# EAGLE library part AD22151 (library magnetic_sensors)
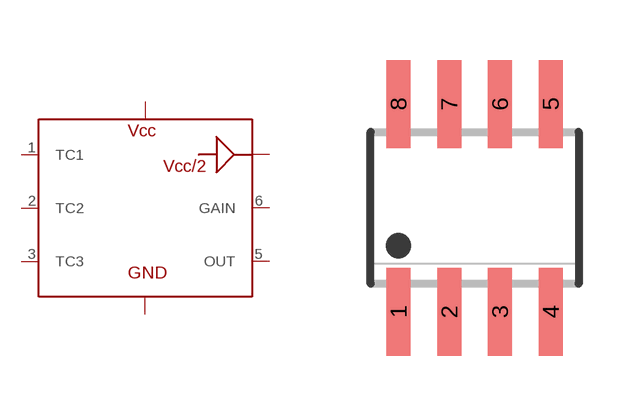
[diagram p0: symbol with the pads of SOIC8; footprint SOIC8]

Designator prefix U

## AD22151  [SOIC8]
1  TC1
2  TC2
3  TC3
4  GND  pwr
5  OUT
6  GAIN
7  REF  out
8  PWR  pwr

## Footprint SOIC8 (pad centres in mm)
smd 0.6 x 2.2: 1 -1.905,-2.6; 2 -0.635,-2.6; 3 0.635,-2.6; 4 1.905,-2.6; 5 1.905,2.6; 6 0.635,2.6; 7 -0.635,2.6; 8 -1.905,2.6